# Altium footprint library S4B-ZR-SM4A-TF_LF__SN_.PcbLib: 1 footprints
Each footprint in its own frame and in the unit in brackets; x right, y up, seen from the top. Pads: shape width x height; smd on the part's side, far side on the other; paste and mask are expansions set on the pad; w line width, h text height; cw(c..) or ccw(c..) is an arc to the next point about the centre after c.
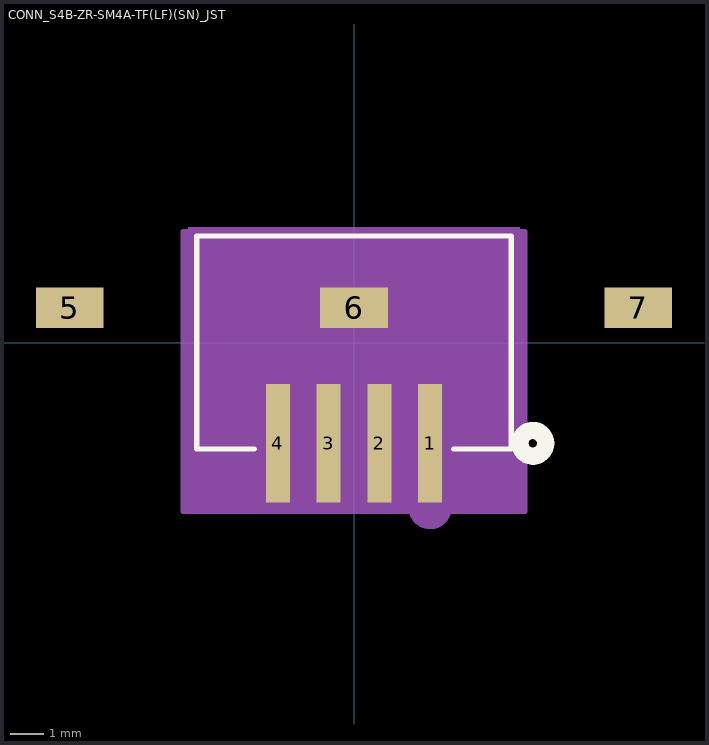
[diagram p0: the footprint, top view; thin cyan lines are the x and y axes]

## CONN_S4B-ZR-SM4A-TF(LF)(SN)_JST [mil]
pads (7):
  rect 28x138 smd paste+0 mask+0: 1(88.5,-117.22) 2(29.5,-117.22) 3(-29.5,-117.22) 4(-88.5,-117.22)
  rect 79x47 smd: 5(-330.71,40.26) 6(0,40.26) 7(330.71,40.26)
Top Overlay:
  circle w20: c208,-117.22 r15
  lines w6: -115.6,-124 -183,-124 -183,124 183,124 183,-124 115.6,-124
Bottom Overlay:
  circle w20: c208,-117.22 r15
Mechanical 5:
  region: -193,134 193,134 193,-134 -193,-134
Mechanical 13:
  circle w20: c88.5,-192.22 r15
  lines w1: -178,-119 178,-119 178,119 -178,119 -178,-119
Mechanical 15:
  region: 198.85,129 -198.85,129 -198.85,-196.22 198.85,-196.22
  lines w6: -198.85,-196.22 -198.85,129 198.85,129 198.85,-196.22 -198.85,-196.22
3D body: height 10, standoff 0, extent 0,0 10,10